# EAGLE library part M09_SMD_90 (library wsn)
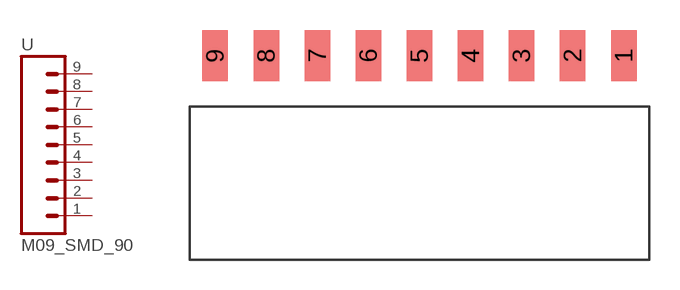
[diagram p64: symbol with the pads of M09_SMD_90; footprint M09_SMD_90]

Designator prefix -

## M09_SMD_90  [M09_SMD_90]
1  1  pas
2  2  pas
3  3  pas
4  4  pas
5  5  pas
6  6  pas
7  7  pas
8  8  pas
9  9  pas

## Footprint M09_SMD_90 (pad centres in mm)
smd 1.27 x 2.54: 1 20.32,0; 2 17.78,0; 3 15.24,0; 4 12.7,0; 5 10.16,0; 6 7.62,0; 7 5.08,0; 8 2.54,0; 9 0,0